# Altium schematic symbol library MAX17048G.SCHLIB: 3 symbols
Pins are listed as number, name and electrical type; pins without a type are passive.

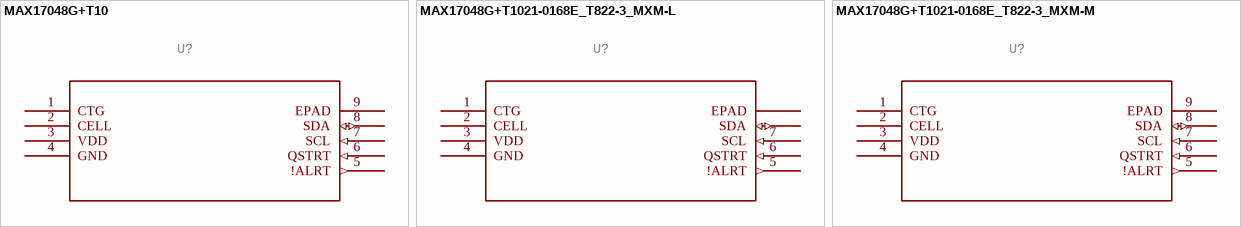
[diagram p0: symbols MAX17048G+T10 to MAX17048G+T1021-0168E_T822-3_MXM-M]

## MAX17048G+T10
designator U?
MANUFACTURER_NAME: Analog Devices Inc; GateName_1: A; SymbolName_1: MAX17048G+T10; DESCRIPTION: 3µA 1-Cell/2-Cell Fuel Gauge with ModelGauge; LibraryName: MAX17048G; DeviceSetName: MAX17048G+T10; Package: 21-0168E_T822-3_MXM; COPYRIGHT: Copyright (C) 2025 Ultra Librarian. All rights reserved.; MANUFACTURER_PART_NUMBER: MAX17048G+T10
footprint 21-0168E_T822-3_MXM
pins: 1 CTG, 2 CELL, 3 VDD (power), 4 GND (power), 5 !ALRT (out), 6 QSTRT (in), 7 SCL (in), 8 SDA (io), 9 EPAD

## MAX17048G+T1021-0168E_T822-3_MXM-L
designator U?
MANUFACTURER_NAME: Analog Devices Inc; GateName_1: A; SymbolName_1: MAX17048G+T10; DeviceName: 21-0168E_T822-3_MXM-L; DESCRIPTION: 3µA 1-Cell/2-Cell Fuel Gauge with ModelGauge; LibraryName: MAX17048G; DeviceSetName: MAX17048G+T10; Package: 21-0168E_T822-3_MXM-L; COPYRIGHT: Copyright (C) 2025 Ultra Librarian. All rights reserved.; MANUFACTURER_PART_NUMBER: MAX17048G+T10
footprint 21-0168E_T822-3_MXM-L
pins: 1 CTG, 2 CELL, 3 VDD (power), 4 GND (power), 5 !ALRT (out), 6 QSTRT (in), 7 SCL (in), ?1 SDA (io), ?2 EPAD

## MAX17048G+T1021-0168E_T822-3_MXM-M
designator U?
MANUFACTURER_NAME: Analog Devices Inc; GateName_1: A; SymbolName_1: MAX17048G+T10; DeviceName: 21-0168E_T822-3_MXM-M; DESCRIPTION: 3µA 1-Cell/2-Cell Fuel Gauge with ModelGauge; LibraryName: MAX17048G; DeviceSetName: MAX17048G+T10; Package: 21-0168E_T822-3_MXM-M; COPYRIGHT: Copyright (C) 2025 Ultra Librarian. All rights reserved.; MANUFACTURER_PART_NUMBER: MAX17048G+T10
footprint 21-0168E_T822-3_MXM-M
pins: 1 CTG, 2 CELL, 3 VDD (power), 4 GND (power), 5 !ALRT (out), 6 QSTRT (in), 7 SCL (in), 8 SDA (io), 9 EPAD